# Altium schematic symbol library 2021-03-03_14-05-08.SchLib: 2 symbols
Pins are listed as number, name and electrical type; pins without a type are passive.

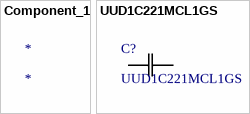
[diagram p0: symbols Component_1 to UUD1C221MCL1GS]

## Component_1
designator *

## UUD1C221MCL1GS
designator C?
No Description Available; Vendor: Nichicon; Built_By: EMA_UL_Team; SourceLibrary: Nichicon_2014-12-31; Type: DEV; Manufacturer_Part_Number: UUD1C221MCL1GS; Copyright: Copyright (C) 2018 Accelerated Designs. All rights reserved; RefDes: RefDes
footprint U2-K_NCH
footprint Model Name (Footprint not found)
pins: 1, 2